# Altium footprint library BSZ340N08NS3_G.PcbLib: 1 footprints
Each footprint in its own frame and in the unit in brackets; x right, y up, seen from the top. Pads: shape width x height; smd on the part's side, far side on the other; paste and mask are expansions set on the pad; w line width, h text height; cw(c..) or ccw(c..) is an arc to the next point about the centre after c.
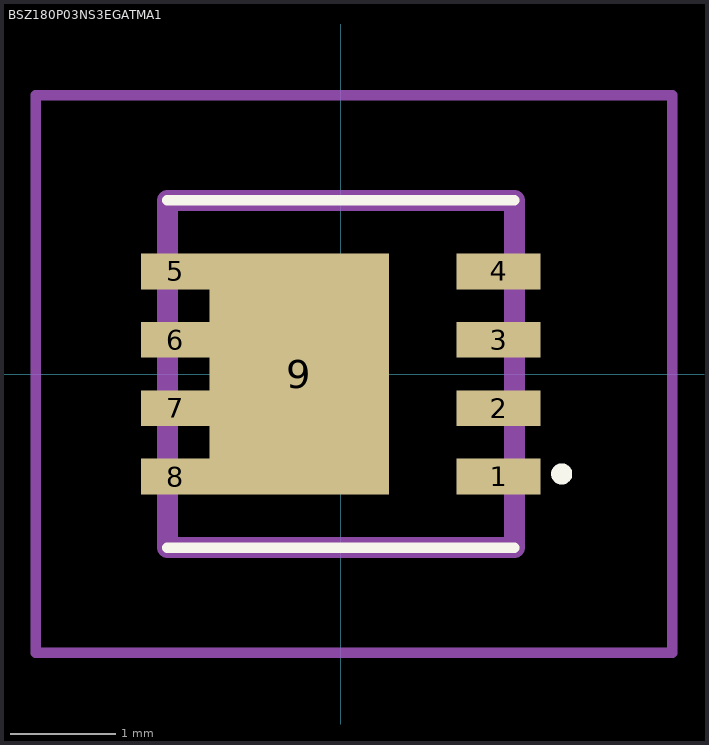
[diagram p0: the footprint, top view; thin cyan lines are the x and y axes]

## BSZ180P03NS3EGATMA1 [mm]
pads (9):
  rect 0.8x0.34 smd: 1(1.5,-0.975) 2(1.5,-0.325) 3(1.5,0.325) 4(1.5,0.975)
  rect 0.65x0.34 smd: 5(-1.575,0.975) 6(-1.575,0.325) 7(-1.575,-0.325) 8(-1.575,-0.975)
  rect 1.71x2.29 smd: 9(-0.395,0)
Top Overlay:
  lines w0.1: -1.65,-1.65 1.65,-1.65 ; -1.65,1.65 1.65,1.65 ; 2.1,-1 ccw(c2.1,-0.95) 2.1,-0.9 ccw(c2.1,-0.95) 2.1,-1
Mechanical 13:
  lines w0.2: -1.65,-1.65 1.65,-1.65 1.65,1.65 -1.65,1.65 -1.65,-1.65
Mechanical 15:
  lines w0.1: -2.9,-2.65 3.15,-2.65 3.15,2.65 -2.9,2.65 -2.9,-2.65